# Altium schematic symbol library MCP970.Schlib: 1 symbol
Pins are listed as number, name and electrical type; pins without a type are passive.

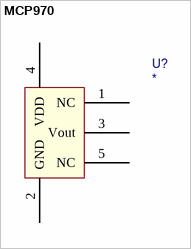
[diagram p0: symbol MCP970]

## MCP970
designator U?
pins: 1 NC, 2 GND, 3 Vout, 4 VDD, 5 NC